# EAGLE library part ESP32-WROOM-32UE-N16 (library ESP32-WROOM-32UE-N16)
Module: IoT; Bluetooth Low Energy,WiFi; SMD; 18x19.2x3.2mm; U.FL Source: Datasheet <https://www.espressif.com/sites/default/files/documentation/esp32-wroom-32e_esp32-wroom-32ue_datasheet_en.pdf>
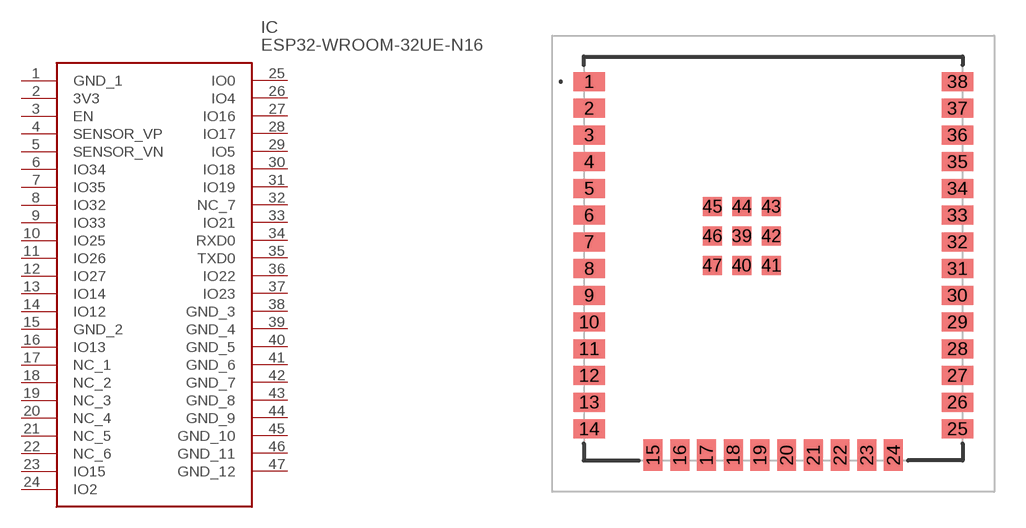
[diagram p0: symbol with the pads of ESP32WROOM32UEN16; footprint ESP32WROOM32UEN16]

Designator prefix IC

## ESP32-WROOM-32UE-N16 (Description: Module: IoT; Bluetooth Low Energy,WiFi; SMD; 18x19.2x3.2mm; U.FL; Height: 3.35mm; Manufacturer_Name: Espressif Systems; Manufacturer_Part_Number: ESP32-WROOM-32UE-N16; Mouser_Part_Number: 356-ESP32WRM32UE28UH; Mouser_Price-Stock: https://www.mouser.co.uk/ProductDetail/Espressif-Systems/ESP32-WROOM-32UE-N16?qs=Li%252BoUPsLEnuNGsnBS87Cxw%3D%3D)  [ESP32WROOM32UEN16]
1  GND_1
2  3V3
3  EN
4  SENSOR_VP
5  SENSOR_VN
6  IO34
7  IO35
8  IO32
9  IO33
10  IO25
11  IO26
12  IO27
13  IO14
14  IO12
15  GND_2
16  IO13
17  NC_1
18  NC_2
19  NC_3
20  NC_4
21  NC_5
22  NC_6
23  IO15
24  IO2
25  IO0
26  IO4
27  IO16
28  IO17
29  IO5
30  IO18
31  IO19
32  NC_7
33  IO21
34  RXD0
35  TXD0
36  IO22
37  IO23
38  GND_3
39  GND_4
40  GND_5
41  GND_6
42  GND_7
43  GND_8
44  GND_9
45  GND_10
46  GND_11
47  GND_12

## Footprint ESP32WROOM32UEN16 (pad centres in mm)
ESP32-WROOM-32UE-N16-5
smd 1.5 x 0.9: 1 -8.75,8.66; 2 -8.75,7.39; 3 -8.75,6.12; 4 -8.75,4.85; 5 -8.75,3.58; 6 -8.75,2.31; 7 -8.75,1.04; 8 -8.75,-0.23; 9 -8.75,-1.5; 10 -8.75,-2.77; 11 -8.75,-4.04; 12 -8.75,-5.31; 13 -8.75,-6.58; 14 -8.75,-7.85; 25 8.75,-7.85; 26 8.75,-6.58; 27 8.75,-5.31; 28 8.75,-4.04; 29 8.75,-2.77; 30 8.75,-1.5; 31 8.75,-0.23; 32 8.75,1.04; 33 8.75,2.31; 34 8.75,3.58; 35 8.75,4.85; 36 8.75,6.12; 37 8.75,7.39; 38 8.75,8.66
smd 0.9 x 1.5: 15 -5.715,-9.1; 16 -4.445,-9.1; 17 -3.175,-9.1; 18 -1.905,-9.1; 19 -0.635,-9.1; 20 0.635,-9.1; 21 1.905,-9.1; 22 3.175,-9.1; 23 4.445,-9.1; 24 5.715,-9.1
smd 0.9 x 0.9: 39 -1.5,1.32; 40 -1.5,-0.08; 41 -0.1,-0.08; 42 -0.1,1.32; 43 -0.1,2.72; 44 -1.5,2.72; 45 -2.9,2.72; 46 -2.9,1.32; 47 -2.9,-0.08